# EAGLE library part CONN_2X50_ZZ_SH4 (library GPLIB_CONN)
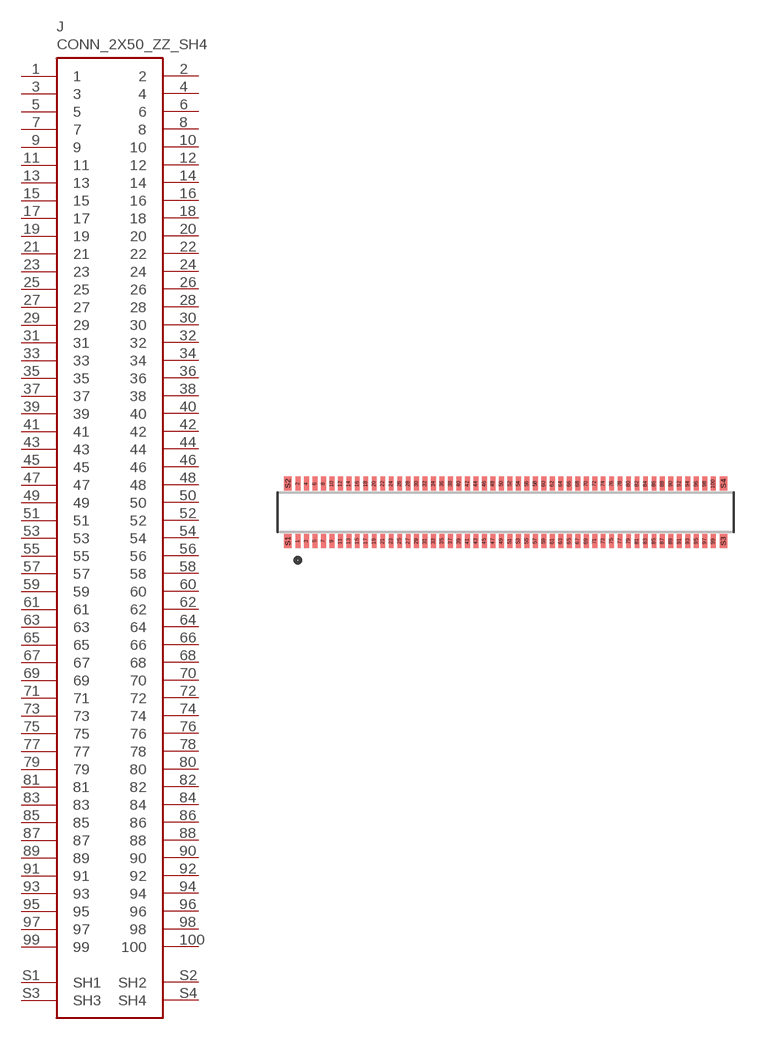
[diagram p71: symbol with the pads of CONN_2X50_0.4MM_SM_ST_DF40C-100DP-0.4V(51); footprint CONN_2X50_0.4MM_SM_ST_DF40C-100DP-0.4V(51)]

Designator prefix J

## CONN_2X50_ZZ_SH4_0.4MM_SM_ST_DF40C-100DP-0.4V_51  [CONN_2X50_0.4MM_SM_ST_DF40C-100DP-0.4V(51)]
1  1  pas
2  2  pas
3  3  pas
4  4  pas
5  5  pas
6  6  pas
7  7  pas
8  8  pas
9  9  pas
10  10  pas
11  11  pas
12  12  pas
13  13  pas
14  14  pas
15  15  pas
16  16  pas
17  17  pas
18  18  pas
19  19  pas
20  20  pas
21  21  pas
22  22  pas
23  23  pas
24  24  pas
25  25  pas
26  26  pas
27  27  pas
28  28  pas
29  29  pas
30  30  pas
31  31  pas
32  32  pas
33  33  pas
34  34  pas
35  35  pas
36  36  pas
37  37  pas
38  38  pas
39  39  pas
40  40  pas
41  41  pas
42  42  pas
43  43  pas
44  44  pas
45  45  pas
46  46  pas
47  47  pas
48  48  pas
49  49  pas
50  50  pas
51  51  pas
52  52  pas
53  53  pas
54  54  pas
55  55  pas
56  56  pas
57  57  pas
58  58  pas
59  59  pas
60  60  pas
61  61  pas
62  62  pas
63  63  pas
64  64  pas
65  65  pas
66  66  pas
67  67  pas
68  68  pas
69  69  pas
70  70  pas
71  71  pas
72  72  pas
73  73  pas
74  74  pas
75  75  pas
76  76  pas
77  77  pas
78  78  pas
79  79  pas
80  80  pas
81  81  pas
82  82  pas
83  83  pas
84  84  pas
85  85  pas
86  86  pas
87  87  pas
88  88  pas
89  89  pas
90  90  pas
91  91  pas
92  92  pas
93  93  pas
94  94  pas
95  95  pas
96  96  pas
97  97  pas
98  98  pas
99  99  pas
100  100  pas
S1  SH1  pas
S2  SH2  pas
S3  SH3  pas
S4  SH4  pas

## Footprint CONN_2X50_0.4MM_SM_ST_DF40C-100DP-0.4V(51) (pad centres in mm)
smd 0.23 x 0.66: 1 -9.8,-1.355; 2 -9.8,1.355; 3 -9.4,-1.355; 4 -9.4,1.355; 5 -9,-1.355; 6 -9,1.355; 7 -8.6,-1.355; 8 -8.6,1.355; 9 -8.2,-1.355; 10 -8.2,1.355; 11 -7.8,-1.355; 12 -7.8,1.355; 13 -7.4,-1.355; 14 -7.4,1.355; 15 -7,-1.355; 16 -7,1.355; 17 -6.6,-1.355; 18 -6.6,1.355; 19 -6.2,-1.355; 20 -6.2,1.355; 21 -5.8,-1.355; 22 -5.8,1.355; 23 -5.4,-1.355; 24 -5.4,1.355; 25 -5,-1.355; 26 -5,1.355; 27 -4.6,-1.355; 28 -4.6,1.355; 29 -4.2,-1.355; 30 -4.2,1.355; 31 -3.8,-1.355; 32 -3.8,1.355; 33 -3.4,-1.355; 34 -3.4,1.355; 35 -3,-1.355; 36 -3,1.355; 37 -2.6,-1.355; 38 -2.6,1.355; 39 -2.2,-1.355; 40 -2.2,1.355; 41 -1.8,-1.355; 42 -1.8,1.355; 43 -1.4,-1.355; 44 -1.4,1.355; 45 -1,-1.355; 46 -1,1.355; 47 -0.6,-1.355; 48 -0.6,1.355; 49 -0.2,-1.355; 50 -0.2,1.355; 51 0.2,-1.355; 52 0.2,1.355; 53 0.6,-1.355; 54 0.6,1.355; 55 1,-1.355; 56 1,1.355; 57 1.4,-1.355; 58 1.4,1.355; 59 1.8,-1.355; 60 1.8,1.355; 61 2.2,-1.355; 62 2.2,1.355; 63 2.6,-1.355; 64 2.6,1.355; 65 3,-1.355; 66 3,1.355; 67 3.4,-1.355; 68 3.4,1.355; 69 3.8,-1.355; 70 3.8,1.355; 71 4.2,-1.355; 72 4.2,1.355; 73 4.6,-1.355; 74 4.6,1.355; 75 5,-1.355; 76 5,1.355; 77 5.4,-1.355; 78 5.4,1.355; 79 5.8,-1.355; 80 5.8,1.355; 81 6.2,-1.355; 82 6.2,1.355; 83 6.6,-1.355; 84 6.6,1.355; 85 7,-1.355; 86 7,1.355; 87 7.4,-1.355; 88 7.4,1.355; 89 7.8,-1.355; 90 7.8,1.355; 91 8.2,-1.355; 92 8.2,1.355; 93 8.6,-1.355; 94 8.6,1.355; 95 9,-1.355; 96 9,1.355; 97 9.4,-1.355; 98 9.4,1.355; 99 9.8,-1.355; 100 9.8,1.355
smd 0.35 x 0.66: S1 -10.275,-1.355; S2 -10.275,1.355; S3 10.275,-1.355; S4 10.275,1.355